# Altium schematic symbol library MODULOS_RF.SCHLIB: 12 symbols
Pins are listed as number, name and electrical type; pins without a type are passive.

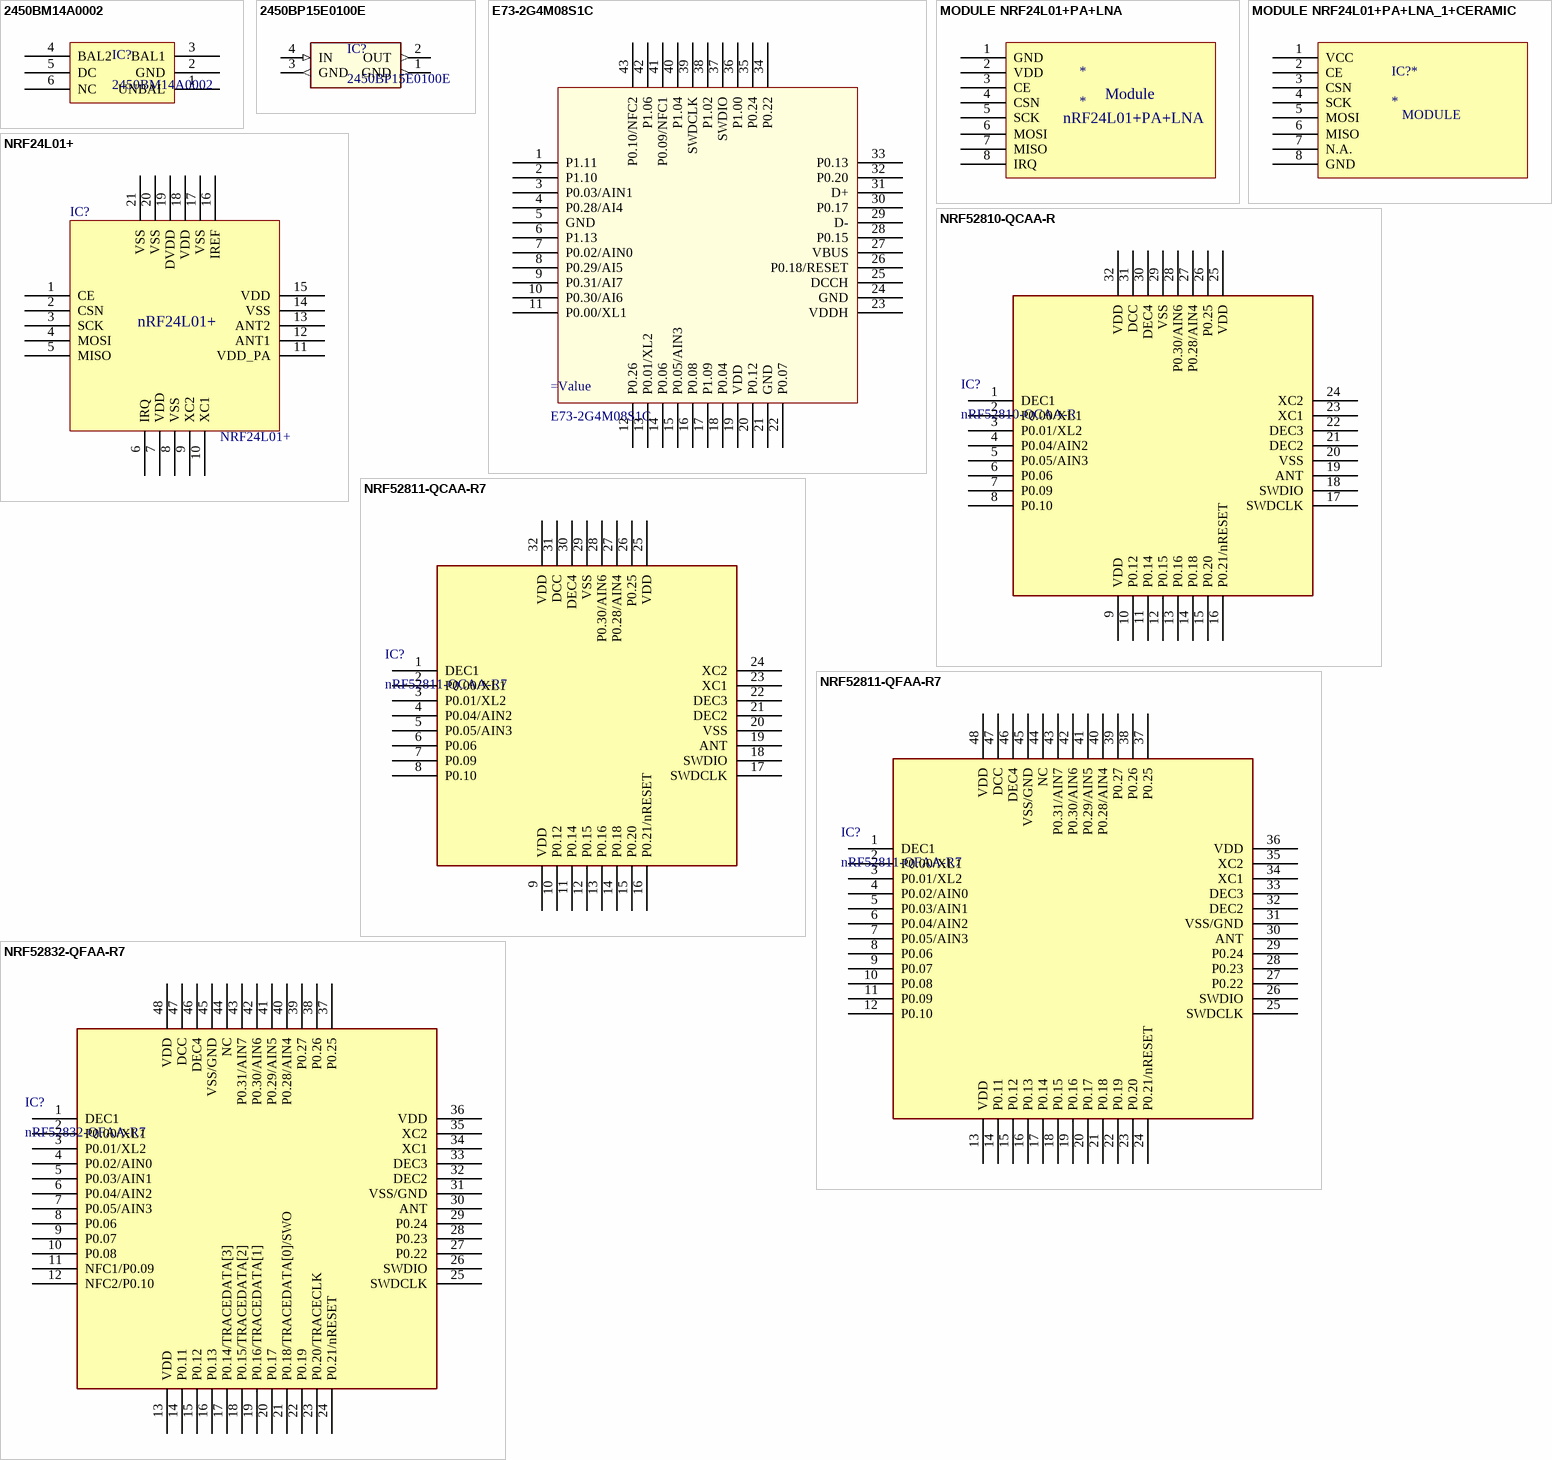
[diagram p0: symbols 2450BM14A0002 to NRF52832-QFAA-R7]

## 2450BM14A0002
designator IC?
BALUN 2.4GHZ-2.5GHZ 0603; ComponentLink1Description: DATASHEET; ComponentLink1URL: https://www.johansontechnology.com/datasheets/2450BM14A0002/2450BM14A0002.pdf; ComponentLink2Description: LOJA; ComponentLink2URL: https://www.digikey.com/product-detail/en/johanson-technology-inc/2450BM14A0002T/712-1574-1-ND/4770711; Parameter 1: *; Parameter 2: *; Parameter 3: *; Parameter 4: *
footprint 2450BM14A0002
pins: 1 UNBAL, 2 GND, 3 BAL1, 4 BAL2, 5 DC, 6 NC

## 2450BP15E0100E
designator IC?
RF FILTER BAND PASS 2.45GHZ 0805; ComponentLink1Description: DATASHEET; ComponentLink1URL: https://www.johansontechnology.com/datasheets/2450BP15E0100/2450BP15E0100.pdf; ComponentLink2Description: LOJA; ComponentLink2URL: https://www.digikey.com/product-detail/en/johanson-technology-inc/2450BP15E0100E/712-1081-1-ND/1560910; Parameter 1: *; Parameter 2: *; Parameter 3: *; Parameter 4: *
footprint 2450BP15E0100E
pins: 1 GND (out), 2 OUT (out), 3 GND (out), 4 IN (in)

## E73-2G4M08S1C
designator =Value
nRF52840 2.4GHz SMD Wireless Module; Value: U?; FABRICANTE: EBYTE; MPN: E73-2G4M08S1C; Footprint: E73-2G4M08S1C
footprint E73-2G4M08S1C (nRF52840 2.4GHz SMD Wireless Module)
pins: 1 P1.11, 2 P1.10, 3 P0.03/AIN1, 4 P0.28/AI4, 5 GND, 6 P1.13, 7 P0.02/AIN0, 8 P0.29/AI5, 9 P0.31/AI7, 10 P0.30/AI6, 11 P0.00/XL1, 12 P0.26, 13 P0.01/XL2, 14 P0.06, 15 P0.05/AIN3, 16 P0.08, 17 P1.09, 18 P0.04, 19 VDD, 20 P0.12, 21 GND, 22 P0.07, 23 VDDH, 24 GND, 25 DCCH, 26 P0.18/RESET, 27 VBUS, 28 P0.15, 29 D-, 30 P0.17, 31 D+, 32 P0.20, 33 P0.13, 34 P0.22, 35 P0.24, 36 P1.00, 37 SWDIO, 38 P1.02, 39 SWDCLK, 40 P1.04, 41 P0.09/NFC1, 42 P1.06, 43 P0.10/NFC2

## MODULE NRF24L01+PA+LNA
designator *
Parameter 1: *; Parameter 2: *; Parameter 3: *; Parameter 4: *
footprint MODULE NRF24L01+PA_LNA
footprint MODULE NRF24L01+PA_LNA - foot
pins: 1 GND, 2 VDD, 3 CE, 4 CSN, 5 SCK, 6 MOSI, 7 MISO, 8 IRQ
text: Module; nRF24L01+PA+LNA

## MODULE NRF24L01+PA+LNA_1+CERAMIC
designator IC?*
ComponentLink1Description: LOJA; ComponentLink1URL: https://www.amazon.com/NRF24L01-Wireless-Ceramic-2-2-3-6V-Raspberry/dp/B07VYXX9CX; Parameter 1: *; Parameter 2: *; Parameter 3: *; Parameter 4: *
footprint MODULE NRF24L01+PA_LNA+CERÂMICA
pins: 1 VCC, 2 CE, 3 CSN, 4 SCK, 5 MOSI, 6 MISO, 7 N.A., 8 GND
text: MODULE

## NRF24L01+
designator IC?
IC RF TXRX ISM>1GHZ 20VFQFN; Part Field 1: 0603; ComponentLink1Description: DATASHEET; ComponentLink1URL: https://www.nordicsemi.com/-/media/DocLib/Other/Product_Spec/nRF24L01PPSv10.pdf; ComponentLink2Description: LOJA; ComponentLink2URL: https://www.digikey.com/product-detail/en/nordic-semiconductor-asa/NRF24L01P-R7/1490-1033-1-ND/4626401; Parameter 1: *; Parameter 2: *; Parameter 3: *
footprint QFN20L
pins: 1 CE, 2 CSN, 3 SCK, 4 MOSI, 5 MISO, 6 IRQ, 7 VDD, 8 VSS, 9 XC2, 10 XC1, 11 VDD_PA, 12 ANT1, 13 ANT2, 14 VSS, 15 VDD, 16 IREF, 17 VSS, 18 VDD, 19 DVDD, 20 VSS, 21 VSS
text: nRF24L01+

## NRF52810-QCAA-R
designator IC?, comment nRF52810-QCAA-R
Systems on a Chip (sistemas em chip) RF - SoC BLE 5 Ready OTA QFN 32pin 5x5mm; Fabricante: Nordic Semiconductor; ComponentLink1Description: DATASHEET; ComponentLink1URL: https://infocenter.nordicsemi.com/pdf/nRF52810_PS_v1.0.pdf; ComponentLink2Description: LOJA; ComponentLink2URL: https://br.mouser.com/ProductDetail/Nordic-Semiconductor/nRF52810-QCAA-R?qs=5aG0NVq1C4xG8SuHIZD0ug%3D%3D; Footprint: QFN-32; Value: nRF52810-QCAA-R; MPN: nRF52810-QCAA-R
footprint QFN32 (QFN, 32-Leads, Body 5,00x5,00mm, Pitch 0,50mm, Thermal Pad 3,50x3,50mm, IPC Low Density)
pins: 1 DEC1, 2 P0.00/XL1, 3 P0.01/XL2, 4 P0.04/AIN2, 5 P0.05/AIN3, 6 P0.06, 7 P0.09, 8 P0.10, 9 VDD (power), 10 P0.12, 11 P0.14, 12 P0.15, 13 P0.16, 14 P0.18, 15 P0.20, 16 P0.21/nRESET, 17 SWDCLK, 18 SWDIO, 19 ANT, 20 VSS, 21 DEC2, 22 DEC3, 23 XC1, 24 XC2, 25 VDD, 26 P0.25, 27 P0.28/AIN4, 28 P0.30/AIN6, 29 VSS, 30 DEC4, 31 DCC, 32 VDD (power)

## NRF52811-QCAA-R7
designator IC?, comment nRF52811-QCAA-R7
RF System on a Chip - SoC Bluetooth 5.1 Multiprotocal; Fabricante: Nordic Semiconductor; ComponentLink1Description: DATASHEET; ComponentLink1URL: https://br.mouser.com/datasheet/2/297/nRF52811_PS_v1.0-1621242.pdf; ComponentLink2Description: LOJA; ComponentLink2URL: https://br.mouser.com/ProductDetail/Nordic-Semiconductor/nRF52811-QCAA-R7?qs=sGAEpiMZZMuReUCzg6bfTAYlATJbN4OcIIwa8sxByDV8d5Oww2jpow%3D%3D; Footprint: QFN-32; Value: nRF52811-QCAA-R7; MPN: nRF52811-QCAA-R7
footprint QFN32 (QFN, 32-Leads, Body 5,00x5,00mm, Pitch 0,50mm, Thermal Pad 3,50x3,50mm, IPC Low Density)
pins: 1 DEC1, 2 P0.00/XL1, 3 P0.01/XL2, 4 P0.04/AIN2, 5 P0.05/AIN3, 6 P0.06, 7 P0.09, 8 P0.10, 9 VDD (power), 10 P0.12, 11 P0.14, 12 P0.15, 13 P0.16, 14 P0.18, 15 P0.20, 16 P0.21/nRESET, 17 SWDCLK, 18 SWDIO, 19 ANT, 20 VSS, 21 DEC2, 22 DEC3, 23 XC1, 24 XC2, 25 VDD, 26 P0.25, 27 P0.28/AIN4, 28 P0.30/AIN6, 29 VSS, 30 DEC4, 31 DCC, 32 VDD (power)

## NRF52811-QFAA-R7
designator IC?, comment nRF52811-QFAA-R7
Sistema RF em um chip - SoC Bluetooth 5.1 Multiprotocal; Fabricante: Nordic Semiconductor; ComponentLink1Description: DATASHEET; ComponentLink1URL: https://br.mouser.com/datasheet/2/297/nRF52811_PS_v1.0-1621242.pdf; ComponentLink2Description: LOJA; ComponentLink2URL: https://br.mouser.com/ProductDetail/Nordic-Semiconductor/nRF52811-QFAA-R7?qs=sGAEpiMZZMuReUCzg6bfTAYlATJbN4OcYNB8Xg%252BqUZiopofbzhku3A%3D%3D; Footprint: QFN-48; Value: nRF52811-QFAA-R7; MPN: nRF52811-QFAA-R7
footprint QFN48 (QFN, 48-Leads, Body 6,00x6,00mm, Pitch 0,40mm, Thermal Pad 4,60x4,60mm, IPC Low Density)
pins: 1 DEC1, 2 P0.00/XL1, 3 P0.01/XL2, 4 P0.02/AIN0, 5 P0.03/AIN1, 6 P0.04/AIN2, 7 P0.05/AIN3, 8 P0.06, 9 P0.07, 10 P0.08, 11 P0.09, 12 P0.10, 13 VDD, 14 P0.11, 15 P0.12, 16 P0.13, 17 P0.14, 18 P0.15, 19 P0.16, 20 P0.17, 21 P0.18, 22 P0.19, 23 P0.20, 24 P0.21/nRESET, 25 SWDCLK, 26 SWDIO, 27 P0.22, 28 P0.23, 29 P0.24, 30 ANT, 31 VSS/GND, 32 DEC2, 33 DEC3, 34 XC1, 35 XC2, 36 VDD (power), 37 P0.25, 38 P0.26, 39 P0.27, 40 P0.28/AIN4, 41 P0.29/AIN5, 42 P0.30/AIN6, 43 P0.31/AIN7, 44 NC, 45 VSS/GND, 46 DEC4, 47 DCC, 48 VDD (power)

## NRF52832-QFAA-R7
designator IC?, comment nRF52832-QFAA-R7
Sistema RF em um chip - SoC Multiprotocolo Bluetooth Smart / ANT / 2.4GHz SoC; Fabricante: Nordic Semiconductor; ComponentLink1Description: DATASHEET; ComponentLink1URL: https://br.mouser.com/datasheet/2/297/nRF52832_PS_v1.3-1117956.pdf; ComponentLink2Description: LOJA; ComponentLink2URL: https://br.mouser.com/ProductDetail/Nordic-Semiconductor/nRF52832-QFAA-R7?qs=sGAEpiMZZMvI6uSdB0AenUM9EIMmu4Zj8k3CGW%2FHvv4%3D; Footprint: QFN-48; Value: nRF52832-QFAA-R7; MPN: nRF52832-QFAA-R7
footprint QFN48 (QFN, 48-Leads, Body 6,00x6,00mm, Pitch 0,40mm, Thermal Pad 4,60x4,60mm, IPC Low Density)
pins: 1 DEC1, 2 P0.00/XL1, 3 P0.01/XL2, 4 P0.02/AIN0, 5 P0.03/AIN1, 6 P0.04/AIN2, 7 P0.05/AIN3, 8 P0.06, 9 P0.07, 10 P0.08, 11 NFC1/P0.09, 12 NFC2/P0.10, 13 VDD, 14 P0.11, 15 P0.12, 16 P0.13, 17 P0.14/TRACEDATA[3], 18 P0.15/TRACEDATA[2], 19 P0.16/TRACEDATA[1], 20 P0.17, 21 P0.18/TRACEDATA[0]/SWO, 22 P0.19, 23 P0.20/TRACECLK, 24 P0.21/nRESET, 25 SWDCLK, 26 SWDIO, 27 P0.22, 28 P0.23, 29 P0.24, 30 ANT, 31 VSS/GND, 32 DEC2, 33 DEC3, 34 XC1, 35 XC2, 36 VDD (power), 37 P0.25, 38 P0.26, 39 P0.27, 40 P0.28/AIN4, 41 P0.29/AIN5, 42 P0.30/AIN6, 43 P0.31/AIN7, 44 NC, 45 VSS/GND, 46 DEC4, 47 DCC, 48 VDD (power)

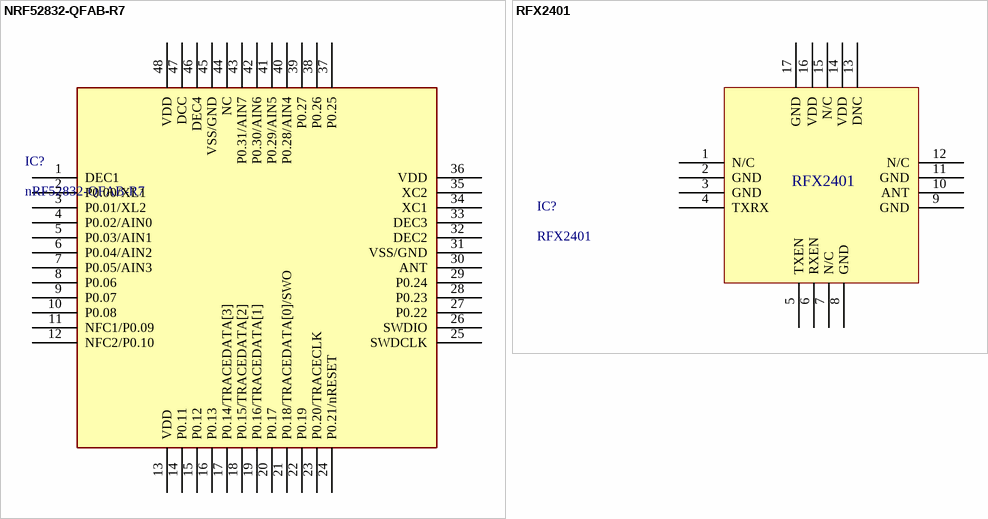
[diagram p1: symbols NRF52832-QFAB-R7 to RFX2401]

## NRF52832-QFAB-R7
designator IC?, comment nRF52832-QFAB-R7
Sistema RF em um chip - SoC Bluetooth 4.2 e 5 etiqueta NFC QFN 48; Fabricante: Nordic Semiconductor; ComponentLink1Description: DATASHEET; ComponentLink1URL: https://br.mouser.com/datasheet/2/297/nRF52832_PS_v1.3-1117956.pdf; ComponentLink2Description: LOJA; ComponentLink2URL: https://br.mouser.com/ProductDetail/Nordic-Semiconductor/nRF52832-QFAB-R7?qs=sGAEpiMZZMve4%2FbfQkoj%252BKFBF8intO0r7qbbSfeDU4s%3D; Footprint: QFN-48; Value: nRF52832-QFAB-R7; MPN: nRF52832-QFAB-R7
footprint QFN48 (QFN, 48-Leads, Body 6,00x6,00mm, Pitch 0,40mm, Thermal Pad 4,60x4,60mm, IPC Low Density)
pins: 1 DEC1, 2 P0.00/XL1, 3 P0.01/XL2, 4 P0.02/AIN0, 5 P0.03/AIN1, 6 P0.04/AIN2, 7 P0.05/AIN3, 8 P0.06, 9 P0.07, 10 P0.08, 11 NFC1/P0.09, 12 NFC2/P0.10, 13 VDD, 14 P0.11, 15 P0.12, 16 P0.13, 17 P0.14/TRACEDATA[3], 18 P0.15/TRACEDATA[2], 19 P0.16/TRACEDATA[1], 20 P0.17, 21 P0.18/TRACEDATA[0]/SWO, 22 P0.19, 23 P0.20/TRACECLK, 24 P0.21/nRESET, 25 SWDCLK, 26 SWDIO, 27 P0.22, 28 P0.23, 29 P0.24, 30 ANT, 31 VSS/GND, 32 DEC2, 33 DEC3, 34 XC1, 35 XC2, 36 VDD (power), 37 P0.25, 38 P0.26, 39 P0.27, 40 P0.28/AIN4, 41 P0.29/AIN5, 42 P0.30/AIN6, 43 P0.31/AIN7, 44 NC, 45 VSS/GND, 46 DEC4, 47 DCC, 48 VDD (power)

## RFX2401
designator IC?
IC FRONT END WLAN/ZIGBEE 16QFN; ComponentLink1Description: DATASHEET; ComponentLink1URL: http://www.skyworksinc.com/uploads/documents/RFX2401C_204359B.pdf; ComponentLink2Description: LOJA; ComponentLink2URL: https://www.digikey.com/product-detail/en/skyworks-solutions-inc/RFX2401C/863-1828-1-ND/6172954; Parameter 1: *; Parameter 2: *; Parameter 3: *; Parameter 4: *
footprint QFN16
pins: 1 N/C, 2 GND, 3 GND, 4 TXRX, 5 TXEN, 6 RXEN, 7 N/C, 8 GND, 9 GND, 10 ANT, 11 GND, 12 N/C, 13 DNC, 14 VDD, 15 N/C, 16 VDD, 17 GND